# Altium integrated library Altium_SMD_Resister.IntLib: 493 symbols (part 6 of 8)
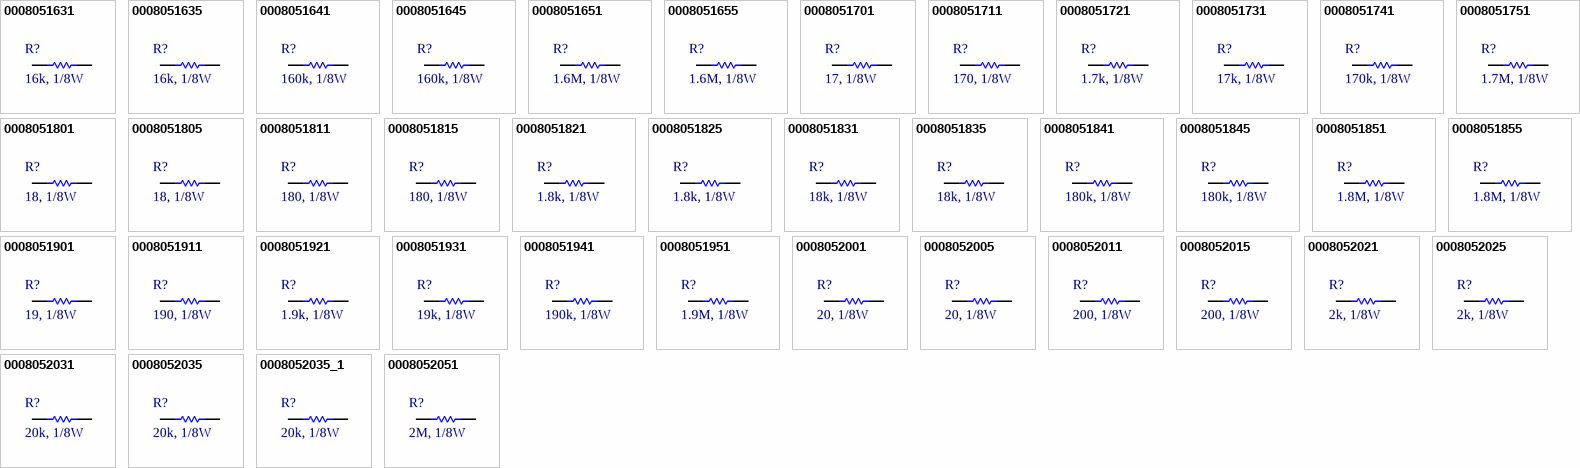
[diagram p17: symbols 0008051631 to 0008052051]

## 0008052021
designator R?, comment 2k, 1/8W
RES, 2k Ohm, size 0805, 1%; Manufacture  Name: Vishay Dale; Manufacture  SN: CRCW08052K00FKEBC; Resistance tolerance: +/-1%; Supply 1 Name: Mouser; Supply 1 SN: 71-CRCW08052K00FKEBC; Supply 2 Name: Digi-Key; Supply 2 SN: 541-CRCW08052K00FKEBCTR-ND; Supply 3 Name: Thegioiic; Size: 0805; Mounting Technology: SMT; Rated Power: 1/8 W; Datasheet: https://www.vishay.com/docs/28773/crcwce3.pdf; Resistance: 2k; Supply 1 URL: https://www.mouser.vn/ProductDetail/Vishay-Dale/CRCW08052K00FKEBC?qs=wd5RIQLrsJimvZ2z7rs9jQ%3D%3D; Supply 2 URL: https://www.digikey.com/en/products/detail/vishay-dale/CRCW08052K00FKEBC/7923203; Supply 3 SN: N/A; Supply 3 URL: N/A
footprint RESISTOR_0805 (Chip Resistor, 2-Leads, Body 2,00x1,20mm, IPC Medium Density)
pins: 1, 2

## 0008052025
designator R?, comment 2k, 1/8W
RES, 2k Ohm, size 0805, 5%; Manufacture  Name: Vishay Dale; Manufacture  SN: CRCW08052K00JNEA; Resistance tolerance: +/-5%; Supply 1 Name: Mouser; Supply 1 SN: 71-CRCW08052K00JNEA; Supply 2 Name: Digi-Key; Supply 2 SN: 541-2.0KATR-ND; Supply 3 Name: Thegioiic; Size: 0805; Mounting Technology: SMT; Rated Power: 1/8 W; Datasheet: https://www.vishay.com/docs/20035/dcrcwe3.pdf; Resistance: 2k; Supply 1 URL: https://www.mouser.vn/ProductDetail/Vishay-Dale/CRCW08052K00JNEA?qs=SM0pg8AlB3peKJz4hE%252BhDA%3D%3D; Supply 2 URL: https://www.digikey.com/en/products/detail/vishay-dale/CRCW08052K00JNEA/1175205; Supply 3 SN: N/A; Supply 3 URL: https://www.thegioiic.com/dien-tro-2-kohm-0805-5
footprint RESISTOR_0805 (Chip Resistor, 2-Leads, Body 2,00x1,20mm, IPC Medium Density)
pins: 1, 2

## 0008052031
designator R?, comment 20k, 1/8W
RES, 20k Ohm, size 0805, 1%; Manufacture  Name: Vishay Dale; Manufacture  SN: CRCW080520K0FKEAC; Resistance tolerance: +/-1%; Supply 1 Name: Mouser; Supply 1 SN: 71-CRCW0805-20K; Supply 2 Name: Digi-Key; Supply 2 SN: 541-4133-2-ND; Supply 3 Name: Thegioiic; Size: 0805; Mounting Technology: SMT; Rated Power: 1/8 W; Datasheet: https://www.vishay.com/docs/28773/crcwce3.pdf; Resistance: 20k; Supply 1 URL: https://www.mouser.vn/ProductDetail/Vishay-Dale/CRCW080520K0FKTA?qs=18bRiP0yrODnUEny%2FmPwqA%3D%3D; Supply 2 URL: https://www.digikey.com/en/products/detail/vishay-dale/CRCW080520K0FKEAC/7928555; Supply 3 SN: N/A; Supply 3 URL: https://www.thegioiic.com/dien-tro-20-kohm-0805-1
footprint RESISTOR_0805 (Chip Resistor, 2-Leads, Body 2,00x1,20mm, IPC Medium Density)
pins: 1, 2

## 0008052035
designator R?, comment 20k, 1/8W
RES, 20k Ohm, size 0805, 5%; Manufacture  Name: Panasonic; Manufacture  SN: ERJ-U06J203V; Resistance tolerance: +/-5%; Supply 1 Name: Mouser; Supply 1 SN: 667-ERJ-U06J203V; Supply 2 Name: Digi-Key; Supply 2 SN: P20KATR-ND - Tape & Reel (TR); Supply 3 Name: Thegioiic; Size: 0805; Mounting Technology: SMT; Rated Power: 1/8 W; Datasheet: https://www.mouser.vn/datasheet/2/315/AOA0000C334-1314047.pdf; Resistance: 20k; Supply 1 URL: https://www.mouser.vn/ProductDetail/Panasonic/ERJ-U06J203V?qs=Yyy8avaXlIv0b2cRsnbjDw%3D%3D; Supply 2 URL: https://www.digikey.com/en/products/detail/panasonic-electronic-components/ERJ-6GEYJ203V/83076; Supply 3 SN: N/A; Supply 3 URL: https://www.thegioiic.com/dien-tro-20-kohm-0805-5-
footprint RESISTOR_0805 (Chip Resistor, 2-Leads, Body 2,00x1,20mm, IPC Medium Density)
pins: 1, 2

## 0008052035_1
designator R?, comment 20k, 1/8W
RES, 20k Ohm, size 0805, 5%; Manufacture  Name: Vishay Dale; Manufacture  SN: CRCW080520K0JNEA; Resistance tolerance: +/-5%; Supply 1 Name: Mouser; Supply 1 SN: 71-CRCW0805J-20K-E3; Supply 2 Name: Digi-Key; Supply 2 SN: 541-20KATR-ND; Supply 3 Name: Thegioiic; Size: 0805; Mounting Technology: SMT; Rated Power: 1/8 W; Datasheet: https://www.vishay.com/docs/20035/dcrcwe3.pdf; Resistance: 20k; Supply 1 URL: https://www.mouser.vn/ProductDetail/Vishay-Dale/CRCW080520K0JNEA?qs=t6Mf8e9K%2FunNZ57Hz5Mz5w%3D%3D; Supply 2 URL: https://www.digikey.com/en/products/detail/vishay-dale/CRCW080520K0JNEA/1175229; Supply 3 SN: N/A; Supply 3 URL: https://www.thegioiic.com/dien-tro-20-kohm-0805-5-
footprint RESISTOR_0805 (Chip Resistor, 2-Leads, Body 2,00x1,20mm, IPC Medium Density)
pins: 1, 2

## 0008052051
designator R?, comment 2M, 1/8W
RES, 2M Ohm, size 0805, 1%; Manufacture  Name: Panasonic; Manufacture  SN: ERJ-6ENF2004V; Resistance tolerance: +/-1%; Supply 1 Name: Mouser; Supply 1 SN: 667-ERJ-6ENF2004V; Supply 2 Name: Digi-Key; Supply 3 Name: Thegioiic; Size: 0805; Mounting Technology: SMT; Rated Power: 1/8 W; Datasheet: https://www.mouser.vn/datasheet/2/315/AOA0000C304-1149620.pdf; Resistance: 2M; Supply 1 URL: https://www.mouser.vn/ProductDetail/Panasonic/ERJ-6ENF2004V?qs=50QC8w71jAsSP8AJKmX4kA%3D%3D; Supply 2 SN: N/A; Supply 2 URL: N/A; Supply 3 SN: N/A; Supply 3 URL: N/A
footprint RESISTOR_0805 (Chip Resistor, 2-Leads, Body 2,00x1,20mm, IPC Medium Density)
pins: 1, 2

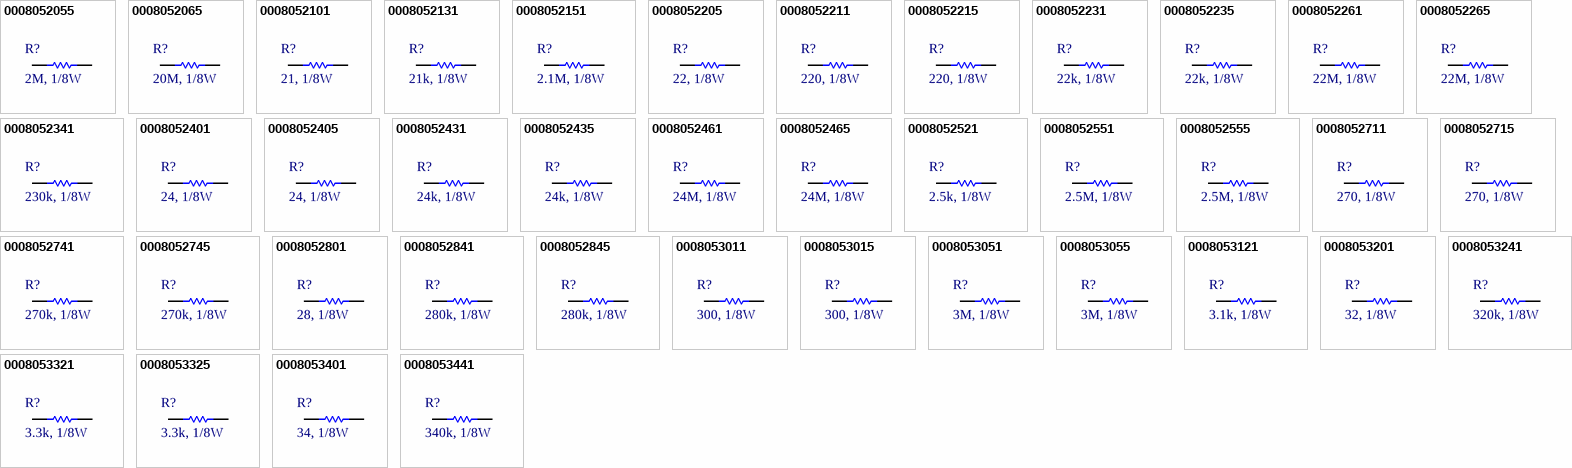
[diagram p9: symbols 0008052055 to 0008053441]

## 0008052055
designator R?, comment 2M, 1/8W
RES, 2M Ohm, size 0805, 5%; Manufacture  Name: Panasonic; Manufacture  SN: ERJ-6GEYJ205V; Resistance tolerance: +/-5%; Supply 1 Name: Mouser; Supply 1 SN: 667-ERJ-6GEYJ205V; Supply 2 Name: Digi-Key; Supply 2 SN: 10-ERJ-U06J205VTR-ND - Tape & Reel (TR); Supply 3 Name: Thegioiic; Size: 0805; Mounting Technology: SMT; Rated Power: 1/8 W; Datasheet: https://www.mouser.vn/datasheet/2/315/AOA0000C301-1488782.pdf; Resistance: 2M; Supply 1 URL: https://www.mouser.vn/ProductDetail/Panasonic/ERJ-6GEYJ205V?qs=8%252BG0TiN%2FgVosrBfWIhyhKw%3D%3D; Supply 2 URL: https://www.digikey.com/en/products/detail/panasonic-electronic-components/ERJ-U06J205V/11631387; Supply 3 SN: N/A; Supply 3 URL: N/A
footprint RESISTOR_0805 (Chip Resistor, 2-Leads, Body 2,00x1,20mm, IPC Medium Density)
pins: 1, 2

## 0008052065
designator R?, comment 20M, 1/8W
RES, 20M Ohm, size 0805, 5%; Manufacture  Name: YAGEO; Manufacture  SN: RC0805JR-0720ML; Resistance tolerance: +/-5%; Supply 1 Name: Mouser; Supply 1 SN: 13-RC0805JR-0720MLTR-ND - Tape & Reel (TR); Supply 2 Name: Digi-Key; Supply 2 SN: P2.1BTTR-ND - Tape & Reel (TR); Supply 3 Name: Thegioiic; Size: 0805; Mounting Technology: SMT; Rated Power: 1/8 W; Datasheet: https://www.mouser.vn/datasheet/2/447/PYu_RC_Group_51_RoHS_L_11-1984063.pdf; Resistance: 20M; Supply 1 URL: https://www.mouser.vn/ProductDetail/YAGEO/RC0805JR-0720ML?qs=FsveJYYILCKsJCsPRaOT6g%3D%3D; Supply 2 URL: https://www.digikey.com/en/products/detail/yageo/RC0805JR-0720ML/5919059; Supply 3 SN: N/A; Supply 3 URL: N/A
footprint RESISTOR_0805 (Chip Resistor, 2-Leads, Body 2,00x1,20mm, IPC Medium Density)
pins: 1, 2

## 0008052101
designator R?, comment 21, 1/8W
RES, 21 Ohm, size 0805, 1%; Manufacture  Name: Vishay / Dale; Manufacture  SN: CRCW080521R0FKEA; Resistance tolerance: +/-1%; Resistance: 21; Supply 1 Name: Mouser; Supply 1 SN: 71-CRCW080521R0FKEA; Supply 2 Name: Digi-Key; Supply 3 Name: Thegioiic; Size: 0805; Mounting Technology: SMT; Rated Power: 1/8 W; Datasheet: https://www.vishay.com/doc?20035; Supply 1 URL: https://www.mouser.vn/ProductDetail/Vishay-Dale/CRCW080521R0FKEA?qs=t6Mf8e9K%2Fuko8IyNc8Xfag%3D%3D; Supply 2 SN: N/A; Supply 2 URL: N/A; Supply 3 SN: N/A; Supply 3 URL: N/A
footprint RESISTOR_0805 (Chip Resistor, 2-Leads, Body 2,00x1,20mm, IPC Medium Density)
pins: 1, 2

## 0008052131
designator R?, comment 21k, 1/8W
RES, 21k Ohm, size 0805, 1%; Manufacture  Name: Bourns; Manufacture  SN: CR0805-FX-2102ELF; Resistance tolerance: +/-1%; Supply 1 Name: Mouser; Supply 1 SN: 652-CR0805FX-2102ELF; Supply 2 Name: Digi-Key; Supply 2 SN: 311-21.0KCRTR-ND - Tape & Reel (TR); Supply 3 Name: Thegioiic; Size: 0805; Mounting Technology: SMT; Rated Power: 1/8 W; Datasheet: https://www.mouser.vn/datasheet/2/54/cr-1858361.pdf; Resistance: 21k; Supply 1 URL: https://www.mouser.vn/ProductDetail/Bourns/CR0805-FX-2102ELF?qs=Woncl1%2FcWdgAGNTXVWqgGA%3D%3D; Supply 2 URL: https://www.digikey.com/en/products/detail/yageo/RC0805FR-0721KL/727728; Supply 3 SN: N/A; Supply 3 URL: N/A
footprint RESISTOR_0805 (Chip Resistor, 2-Leads, Body 2,00x1,20mm, IPC Medium Density)
pins: 1, 2

## 0008052151
designator R?, comment 2.1M, 1/8W
RES, 2.1M Ohm, size 0805, 1%; Manufacture  Name: Vishay / Dale; Manufacture  SN: CRCW08052M10FKEA; Resistance tolerance: +/-1%; Supply 1 Name: Mouser; Supply 1 SN: 71-CRCW08052M10FKEA; Supply 2 Name: Digi-Key; Supply 2 SN: P2.1BTTR-ND - Tape & Reel (TR); Supply 3 Name: Thegioiic; Size: 0805; Mounting Technology: SMT; Rated Power: 1/8 W; Datasheet: https://www.vishay.com/doc?20035; Resistance: 2.1M; Supply 1 URL: https://www.mouser.vn/ProductDetail/Vishay-Dale/CRCW08052M10FKEA?qs=AxGrLaB7GFLQOtpwLfDPFg%3D%3D; Supply 2 URL: https://www.digikey.com/en/products/detail/panasonic-electronic-components/ERJ-6ENF2104V/4429124; Supply 3 SN: N/A; Supply 3 URL: N/A
footprint RESISTOR_0805 (Chip Resistor, 2-Leads, Body 2,00x1,20mm, IPC Medium Density)
pins: 1, 2

## 0008052205
designator R?, comment 22, 1/8W
RES, 22 Ohm, size 0805, 5%; Manufacture  Name: Bourns; Manufacture  SN: CR0805-JW-200ELF; Resistance tolerance: +/-5%; Resistance: 22; Supply 1 Name: Mouser; Supply 1 SN: 652-CR0805JW-200ELF; Supply 2 Name: Digi-Key; Supply 2 SN: CHP0805-JW-200ELFTR-ND - Tape & Reel (TR); Supply 3 Name: Thegioiic; Size: 0805; Mounting Technology: SMT; Rated Power: 1/8 W; Datasheet: https://www.mouser.vn/datasheet/2/54/cr-1858361.pdf; Supply 1 URL: https://www.mouser.vn/ProductDetail/Bourns/CR0805-JW-200ELF?qs=wL7NMIHXUPkPRFW4oSYkFg%3D%3D; Supply 2 URL: https://www.digikey.com/en/products/detail/bourns-inc/CHP0805-JW-200ELF/9598606; Supply 3 SN: N/A; Supply 3 URL: https://www.thegioiic.com/dien-tro-20-ohm-0805-5-
footprint RESISTOR_0805 (Chip Resistor, 2-Leads, Body 2,00x1,20mm, IPC Medium Density)
pins: 1, 2

## 0008052211
designator R?, comment 220, 1/8W
RES, 220 Ohm, size 0805, 1%; Manufacture  Name: ROHM Semiconductor; Manufacture  SN: SFR10EZPF2200; Resistance tolerance: +/-1%; Resistance: 220; Supply 1 Name: Mouser; Supply 1 SN: 755-SFR10EZPF2200; Supply 2 Name: Digi-Key; Supply 2 SN: 13-RC0805FR-13220RLTR-ND - Tape & Reel (TR); Supply 3 Name: Thegioiic; Size: 0805; Mounting Technology: SMT; Rated Power: 1/8 W; Datasheet: https://www.mouser.vn/datasheet/2/348/sfr_e-3009639.pdf; Supply 1 URL: https://www.mouser.vn/ProductDetail/ROHM-Semiconductor/SFR10EZPF2200?qs=Y0Uzf4wQF3kqA8mD%252BXm5fA%3D%3D; Supply 2 URL: https://www.digikey.com/en/products/detail/yageo/RC0805FR-13220RL/14008293; Supply 3 SN: N/A; Supply 3 URL: https://www.thegioiic.com/dien-tro-220-ohm-0805-1-
footprint RESISTOR_0805 (Chip Resistor, 2-Leads, Body 2,00x1,20mm, IPC Medium Density)
pins: 1, 2

## 0008052215
designator R?, comment 220, 1/8W
RES, 220 Ohm, size 0805, 5%; Manufacture  Name: Panasonic; Manufacture  SN: ERJ-U06J221V; Resistance tolerance: +/-5%; Resistance: 220; Supply 1 Name: Mouser; Supply 1 SN: 667-ERJ-U06J221V; Supply 2 Name: Digi-Key; Supply 2 SN: P220ATR-ND - Tape & Reel (TR); Supply 3 Name: Thegioiic; Size: 0805; Mounting Technology: SMT; Rated Power: 1/8 W; Datasheet: https://www.mouser.vn/datasheet/2/348/sfr_e-3009639.pdf; Supply 1 URL: https://www.mouser.vn/ProductDetail/ROHM-Semiconductor/SFR10EZPF2200?qs=Y0Uzf4wQF3kqA8mD%252BXm5fA%3D%3D; Supply 2 URL: https://www.digikey.com/en/products/detail/panasonic-electronic-components/ERJ-6GEYJ221V/89706; Supply 3 SN: N/A; Supply 3 URL: https://www.thegioiic.com/dien-tro-220-ohm-0805-5
footprint RESISTOR_0805 (Chip Resistor, 2-Leads, Body 2,00x1,20mm, IPC Medium Density)
pins: 1, 2

## 0008052231
designator R?, comment 22k, 1/8W
RES, 22k Ohm, size 0805, 1%; Manufacture  Name: Vishay / Dale; Manufacture  SN: CRCW080522K0FKEA; Resistance tolerance: +/-1%; Supply 1 Name: Mouser; Supply 1 SN: 71-CRCW0805-22K-E3; Supply 2 Name: Digi-Key; Supply 2 SN: 13-RC0805FR-1322KLTR-ND - Tape & Reel (TR); Supply 3 Name: Thegioiic; Size: 0805; Mounting Technology: SMT; Rated Power: 1/8 W; Datasheet: https://www.vishay.com/doc?20035; Resistance: 22k; Supply 1 URL: https://www.mouser.vn/ProductDetail/Vishay-Dale/CRCW080522K0FKEA?qs=fIsz7OpyEY835T0D7WGkRw%3D%3D; Supply 2 URL: https://www.digikey.com/en/products/detail/yageo/RC0805FR-1322KL/14008208; Supply 3 SN: N/A; Supply 3 URL: https://www.thegioiic.com/dien-tro-22-kohm-0805-1
footprint RESISTOR_0805 (Chip Resistor, 2-Leads, Body 2,00x1,20mm, IPC Medium Density)
pins: 1, 2

## 0008052235
designator R?, comment 22k, 1/8W
RES, 22k Ohm, size 0805, 5%; Manufacture  Name: Vishay / Dale; Manufacture  SN: CRCW080522K0FKEA; Resistance tolerance: +/-5%; Supply 1 Name: Mouser; Supply 1 SN: 71-CRCW0805-22K-E3; Supply 2 Name: Digi-Key; Supply 2 SN: 13-RC0805FR-1322KLTR-ND - Tape & Reel (TR); Supply 3 Name: Thegioiic; Size: 0805; Mounting Technology: SMT; Rated Power: 1/8 W; Datasheet: https://www.vishay.com/doc?20035; Resistance: 22k; Supply 1 URL: https://www.mouser.vn/ProductDetail/Vishay-Dale/CRCW080522K0FKEA?qs=fIsz7OpyEY835T0D7WGkRw%3D%3D; Supply 2 URL: https://www.digikey.com/en/products/detail/yageo/RC0805FR-1322KL/14008208; Supply 3 SN: N/A; Supply 3 URL: https://www.thegioiic.com/dien-tro-22-kohm-0805-1
footprint RESISTOR_0805 (Chip Resistor, 2-Leads, Body 2,00x1,20mm, IPC Medium Density)
pins: 1, 2

## 0008052261
designator R?, comment 22M, 1/8W
RES, 22M Ohm, size 0805, 1%; Manufacture  Name: SEI Stackpole; Manufacture  SN: RMCF0805FT22M0; Resistance tolerance: +/-1%; Supply 1 Name: Mouser; Supply 1 SN: 708-RMCF0805FT22M0; Supply 2 Name: Digi-Key; Supply 2 SN: RMCF0805FT22M0TR-ND - Tape & Reel (TR); Supply 3 Name: Thegioiic; Size: 0805; Mounting Technology: SMT; Rated Power: 1/8 W; Datasheet: https://www.mouser.vn/datasheet/2/385/SEI_RMCF_RMCP-3077565.pdf; Resistance: 22M; Supply 1 URL: https://www.mouser.vn/ProductDetail/SEI-Stackpole/RMCF0805FT22M0?qs=MyNHzdoqoQLIOin2poKxZA%3D%3D; Supply 2 URL: https://www.digikey.com/en/products/detail/stackpole-electronics-inc/RMCF0805FT22M0/6053747; Supply 3 SN: N/A; Supply 3 URL: N/A
footprint RESISTOR_0805 (Chip Resistor, 2-Leads, Body 2,00x1,20mm, IPC Medium Density)
pins: 1, 2

## 0008052265
designator R?, comment 22M, 1/8W
RES, 22M Ohm, size 0805, 5%; Manufacture  Name: SEI Stackpole; Manufacture  SN: RMCF0805FT22M0; Resistance tolerance: +/-5%; Supply 1 Name: Mouser; Supply 1 SN: 71-CRCW0805226JT; Supply 2 Name: Digi-Key; Supply 2 SN: 541-CRCW080522M0JPEAHRTR-ND - Tape & Reel (TR); Supply 3 Name: Thegioiic; Size: 0805; Mounting Technology: SMT; Rated Power: 1/8 W; Datasheet: https://www.vishay.com/doc?20022; Resistance: 22M; Supply 1 URL: https://www.mouser.vn/ProductDetail/Vishay-Dale/CRCW080522M0JPEAHR?qs=fIsz7OpyEY%2FBgljFbesWMw%3D%3D; Supply 2 URL: https://www.digikey.com/en/products/detail/vishay-dale/CRCW080522M0JPEAHR/5074441; Supply 3 SN: N/A; Supply 3 URL: N/A
footprint RESISTOR_0805 (Chip Resistor, 2-Leads, Body 2,00x1,20mm, IPC Medium Density)
pins: 1, 2

## 0008052341
designator R?, comment 230k, 1/8W
RES, 230k Ohm, size 0805, 1%; Manufacture  Name: Royalohm; Manufacture  SN: 0805W8F2303T5E; Resistance tolerance: +/-1%; Supply 1 Name: Mouser; Supply 1 SN: 303-0805W8F2303T5E; Supply 2 Name: Digi-Key; Supply 3 Name: Thegioiic; Size: 0805; Mounting Technology: SMT; Rated Power: 1/8 W; Datasheet: https://www.mouser.vn/datasheet/2/1365/1-3044649.pdf; Resistance: 230k; Supply 1 URL: https://www.mouser.vn/ProductDetail/Royalohm/0805W8F2303T5E?qs=e8oIoAS2J1TfhjSl20ty9Q%3D%3D; Supply 2 SN: N/A; Supply 2 URL: N/A; Supply 3 SN: N/A; Supply 3 URL: N/A
footprint RESISTOR_0805 (Chip Resistor, 2-Leads, Body 2,00x1,20mm, IPC Medium Density)
pins: 1, 2

## 0008052401
designator R?, comment 24, 1/8W
RES, 24 Ohm, size 0805, 1%; Manufacture  Name: Bourns; Manufacture  SN: CR0805-FX-24R0ELF; Resistance tolerance: +/-1%; Resistance: 24; Supply 1 Name: Mouser; Supply 1 SN: 652-CR0805FX-24R0ELF; Supply 2 Name: Digi-Key; Supply 2 SN: 311-24.0CRTR-ND - Tape & Reel (TR); Supply 3 Name: Thegioiic; Size: 0805; Mounting Technology: SMT; Rated Power: 1/8 W; Datasheet: https://www.mouser.vn/datasheet/2/54/cr-1858361.pdf; Supply 1 URL: https://www.mouser.vn/ProductDetail/Bourns/CR0805-FX-24R0ELF?qs=4vGXhLEMbUyS5LbGuwLBiw%3D%3D; Supply 2 URL: https://www.digikey.com/en/products/detail/yageo/RC0805FR-0724RL/727755; Supply 3 SN: N/A; Supply 3 URL: N/A
footprint RESISTOR_0805 (Chip Resistor, 2-Leads, Body 2,00x1,20mm, IPC Medium Density)
pins: 1, 2

## 0008052405
designator R?, comment 24, 1/8W
RES, 24 Ohm, size 0805, 5%; Manufacture  Name: YAGEO; Manufacture  SN: AR0805JR-0724RL; Resistance tolerance: +/-5%; Resistance: 24; Supply 1 Name: Mouser; Supply 1 SN: 603-AR0805JR-0724RL; Supply 2 Name: Digi-Key; Supply 2 SN: 311-24ARTR-ND - Tape & Reel (TR); Supply 3 Name: Thegioiic; Size: 0805; Mounting Technology: SMT; Rated Power: 1/8 W; Datasheet: https://www.mouser.vn/datasheet/2/447/PYu_AR_51_RoHS_L_7-3003081.pdf; Supply 1 URL: https://www.mouser.vn/ProductDetail/YAGEO/AR0805JR-0724RL?qs=tub3WQyKOl9Td0xHEAWkDQ%3D%3D; Supply 2 URL: https://www.digikey.com/en/products/detail/yageo/RC0805JR-0724RL/728289; Supply 3 SN: N/A; Supply 3 URL: https://www.thegioiic.com/dien-tro-24-ohm-0805-5-
footprint RESISTOR_0805 (Chip Resistor, 2-Leads, Body 2,00x1,20mm, IPC Medium Density)
pins: 1, 2

## 0008052431
designator R?, comment 24k, 1/8W
RES, 24k Ohm, size 0805, 1%; Manufacture  Name: TE Connectivity / Holsworthy; Manufacture  SN: CRG0805F24K; Resistance tolerance: +/-1%; Supply 1 Name: Mouser; Supply 1 SN: 279-CRG0805F24K; Supply 2 Name: Digi-Key; Supply 2 SN: 311-24.0KCRTR-ND - Tape & Reel (TR); Supply 3 Name: Thegioiic; Size: 0805; Mounting Technology: SMT; Rated Power: 1/8 W; Datasheet: https://www.mouser.vn/datasheet/2/418/NG_CD_1623163_BA-655702.pdf; Resistance: 24k; Supply 1 URL: https://www.mouser.vn/ProductDetail/TE-Connectivity-Holsworthy/CRG0805F24K?qs=5Dj%252BCDyFp7jSU1utfpqO1w%3D%3D; Supply 2 URL: https://www.digikey.com/en/products/detail/yageo/RC0805FR-0724KL/727756; Supply 3 SN: N/A; Supply 3 URL: N/A
footprint RESISTOR_0805 (Chip Resistor, 2-Leads, Body 2,00x1,20mm, IPC Medium Density)
pins: 1, 2

## 0008052435
designator R?, comment 24k, 1/8W
RES, 24k Ohm, size 0805, 5%; Manufacture  Name: Bourns; Manufacture  SN: CR0805-JW-243ELF; Resistance tolerance: +/-5%; Supply 1 Name: Mouser; Supply 1 SN: 652-CR0805JW-243ELF; Supply 2 Name: Digi-Key; Supply 2 SN: 118-CR0805-JW-243ELFTR-ND - Tape & Reel (TR); Supply 3 Name: Thegioiic; Size: 0805; Mounting Technology: SMT; Rated Power: 1/8 W; Datasheet: https://www.mouser.vn/datasheet/2/418/NG_CD_1623163_BA-655702.pdf; Resistance: 24k; Supply 1 URL: https://www.mouser.vn/ProductDetail/Bourns/CR0805-JW-243ELF?qs=%252BcBkmVQIZ2SWVtow93mBjQ%3D%3D; Supply 2 URL: https://www.digikey.com/en/products/detail/bourns-inc/CR0805-JW-243ELF/3785280; Supply 3 SN: N/A; Supply 3 URL: https://www.thegioiic.com/dien-tro-24-kohm-0805-5
footprint RESISTOR_0805 (Chip Resistor, 2-Leads, Body 2,00x1,20mm, IPC Medium Density)
pins: 1, 2

## 0008052461
designator R?, comment 24M, 1/8W
RES, 24M Ohm, size 0805, 1%; Manufacture  Name: KOA Speer Electronics, Inc.; Manufacture  SN: HV732HTTE2405F; Resistance tolerance: +/-1%; Supply 1 Name: Mouser; Supply 2 Name: Digi-Key; Supply 2 SN: 2019-HV732HTTE2405FTR-ND - Tape & Reel (TR); Supply 3 Name: Thegioiic; Size: 0805; Mounting Technology: SMT; Rated Power: 1/8 W; Datasheet: https://www.koaspeer.com/pdfs/HV73.pdf; Resistance: 24M; Supply 1 SN: N/A; Supply 1 URL: N/A; Supply 2 URL: https://www.digikey.com/en/products/detail/koa-speer-electronics-inc/HV732HTTE2405F/10132853?s=N4IgjCBcoMxaBjKAzAhgGwM4FMA0IB7KAbXDBggF18AHAFyhAGU6AnASwDsBzEAX3wAmAAwAOAKzwQSSGix5CJEIIAsAAgCyAeQAWAW0whqIeowCqndnS3IN2VJgCurbPz58gA; Supply 3 SN: N/A; Supply 3 URL: N/A
footprint RESISTOR_0805 (Chip Resistor, 2-Leads, Body 2,00x1,20mm, IPC Medium Density)
pins: 1, 2

## 0008052465
designator R?, comment 24M, 1/8W
RES, 24M Ohm, size 0805, 5%; Manufacture  Name: KOA Speer Electronics, Inc.; Manufacture  SN: HV732ATTD246J; Resistance tolerance: +/-5%; Supply 1 Name: Mouser; Supply 2 Name: Digi-Key; Supply 2 SN: 660-HV732ATTD246J; Supply 3 Name: Thegioiic; Size: 0805; Mounting Technology: SMT; Rated Power: 1/8 W; Datasheet: https://www.mouser.vn/datasheet/2/219/HV73-11287.pdf; Resistance: 24M; Supply 1 SN: N/A; Supply 1 URL: N/A; Supply 2 URL: https://www.mouser.vn/ProductDetail/KOA-Speer/HV732ATTD246J?qs=UGeEjMFwUpRa%252BFVrwwDXrw%3D%3D; Supply 3 SN: N/A; Supply 3 URL: N/A
footprint RESISTOR_0805 (Chip Resistor, 2-Leads, Body 2,00x1,20mm, IPC Medium Density)
pins: 1, 2

## 0008052521
designator R?, comment 2.5k, 1/8W
RES, 2.5k Ohm, size 0805, 1%; Manufacture  Name: Royalohm; Manufacture  SN: 0805W8F2501T5E; Resistance tolerance: +/-1%; Supply 1 Name: Mouser; Supply 1 SN: 303-0805W8F2501T5E; Supply 2 Name: Digi-Key; Supply 2 SN: 2997-CR102501FTR-ND - Tape & Reel (TR); Supply 3 Name: Thegioiic; Size: 0805; Mounting Technology: SMT; Rated Power: 1/8 W; Datasheet: https://www.mouser.vn/datasheet/2/1365/1-3044649.pdf; Resistance: 2.5k; Supply 1 URL: https://www.mouser.vn/ProductDetail/Royalohm/0805W8F2501T5E?qs=e8oIoAS2J1Qc4Ic0dQUBsw%3D%3D; Supply 2 URL: https://www.digikey.com/en/products/detail/meritek/CR102501F/13414399; Supply 3 SN: N/A; Supply 3 URL: N/A
footprint RESISTOR_0805 (Chip Resistor, 2-Leads, Body 2,00x1,20mm, IPC Medium Density)
pins: 1, 2

## 0008052551
designator R?, comment 2.5M, 1/8W
RES, 2.5M Ohm, size 0805, 1%; Manufacture  Name: Royalohm; Manufacture  SN: 0805W8F2504T5E; Resistance tolerance: +/-1%; Supply 1 Name: Mouser; Supply 1 SN: 303-0805W8F2504T5E; Supply 2 Name: Digi-Key; Supply 3 Name: Thegioiic; Size: 0805; Mounting Technology: SMT; Rated Power: 1/8 W; Datasheet: https://www.mouser.vn/datasheet/2/1365/1-3044649.pdf; Resistance: 2.5M; Supply 1 URL: https://www.mouser.vn/ProductDetail/Royalohm/0805W8F2504T5E?qs=e8oIoAS2J1Q2l7BgYnDvGQ%3D%3D; Supply 2 SN: N/A; Supply 2 URL: N/A; Supply 3 SN: N/A; Supply 3 URL: N/A
footprint RESISTOR_0805 (Chip Resistor, 2-Leads, Body 2,00x1,20mm, IPC Medium Density)
pins: 1, 2

## 0008052555
designator R?, comment 2.5M, 1/8W
RES, 2.5M Ohm, size 0805, 5%; Manufacture  Name: Ohmite; Manufacture  SN: HVC0805T2504JET; Resistance tolerance: +/-5%; Supply 1 Name: Mouser; Supply 1 SN: 588-HVC0805T2504JET; Supply 2 Name: Digi-Key; Supply 2 SN: HVC0805T2504JETTR-ND - Tape & Reel (TR); Supply 3 Name: Thegioiic; Size: 0805; Mounting Technology: SMT; Rated Power: 1/8 W; Datasheet: https://www.mouser.vn/datasheet/2/303/res_hvc-3082600.pdf; Resistance: 2.5M; Supply 1 URL: https://www.mouser.vn/ProductDetail/Ohmite/HVC0805T2504JET?qs=wolJx%252BcPnTpZSJA41zZzFA%3D%3D; Supply 2 URL: https://www.digikey.com/en/products/detail/ohmite/HVC0805T2504JET/4759727; Supply 3 SN: N/A; Supply 3 URL: N/A
footprint RESISTOR_0805 (Chip Resistor, 2-Leads, Body 2,00x1,20mm, IPC Medium Density)
pins: 1, 2

## 0008052711
designator R?, comment 270, 1/8W
RES, 270 Ohm, size 0805, 1%; Manufacture  Name: Bourns; Manufacture  SN: CR0805-FX-2700ELF; Resistance tolerance: +/-1%; Resistance: 270; Supply 1 Name: Mouser; Supply 1 SN: 652-CR0805FX-2700ELF; Supply 2 Name: Digi-Key; Supply 2 SN: 311-270CRTR-ND - Tape & Reel (TR); Supply 3 Name: Thegioiic; Size: 0805; Mounting Technology: SMT; Rated Power: 1/8 W; Datasheet: https://www.mouser.vn/datasheet/2/54/cr-1858361.pdf; Supply 1 URL: https://www.mouser.vn/ProductDetail/Bourns/CR0805-FX-2700ELF?qs=4vGXhLEMbUwfoxAMFQ260A%3D%3D; Supply 2 URL: https://www.digikey.com/en/products/detail/yageo/RC0805FR-07270RL/727783; Supply 3 SN: N/A; Supply 3 URL: N/A
footprint RESISTOR_0805 (Chip Resistor, 2-Leads, Body 2,00x1,20mm, IPC Medium Density)
pins: 1, 2

## 0008052715
designator R?, comment 270, 1/8W
RES, 270 Ohm, size 0805, 5%; Manufacture  Name: Bourns; Manufacture  SN: CR0805-JW-271ELF; Resistance tolerance: +/-5%; Resistance: 270; Supply 1 Name: Mouser; Supply 1 SN: 652-CR0805JW-271ELF; Supply 2 Name: Digi-Key; Supply 2 SN: 118-CR0805-JW-271ELFTR-ND - Tape & Reel (TR); Supply 3 Name: Thegioiic; Size: 0805; Mounting Technology: SMT; Rated Power: 1/8 W; Datasheet: https://www.mouser.vn/datasheet/2/54/cr-1858361.pdf; Supply 1 URL: https://www.mouser.vn/ProductDetail/Bourns/CR0805-JW-271ELF?qs=%252BcBkmVQIZ2R7GER%2FjClJmw%3D%3D; Supply 2 URL: https://www.digikey.com/en/products/detail/bourns-inc/CR0805-JW-271ELF/3785284; Supply 3 SN: N/A; Supply 3 URL: https://www.thegioiic.com/dien-tro-270-ohm-0805-5
footprint RESISTOR_0805 (Chip Resistor, 2-Leads, Body 2,00x1,20mm, IPC Medium Density)
pins: 1, 2

## 0008052741
designator R?, comment 270k, 1/8W
RES, 270k Ohm, size 0805, 1%; Manufacture  Name: Panasonic; Manufacture  SN: ERJ-6ENF2703V; Resistance tolerance: +/-1%; Supply 1 Name: Mouser; Supply 1 SN: 667-ERJ-6ENF2703V; Supply 2 Name: Digi-Key; Supply 2 SN: 311-270KCRTR-ND - Tape & Reel (TR); Supply 3 Name: Thegioiic; Size: 0805; Mounting Technology: SMT; Rated Power: 1/8 W; Datasheet: https://www.mouser.vn/datasheet/2/315/AOA0000C304-1149620.pdf; Resistance: 270k; Supply 1 URL: https://www.mouser.vn/ProductDetail/Panasonic/ERJ-6ENF2703V?qs=50QC8w71jAsIUsFp0TwUKw%3D%3D; Supply 2 URL: https://www.digikey.com/en/products/detail/yageo/RC0805FR-07270KL/727784; Supply 3 SN: N/A; Supply 3 URL: N/A
footprint RESISTOR_0805 (Chip Resistor, 2-Leads, Body 2,00x1,20mm, IPC Medium Density)
pins: 1, 2

## 0008052745
designator R?, comment 270k, 1/8W
RES, 270k Ohm, size 0805, 5%; Manufacture  Name: Panasonic; Manufacture  SN: ERJ-6GEYJ274V; Resistance tolerance: +/-5%; Supply 1 Name: Mouser; Supply 1 SN: 667-ERJ-6GEYJ274V; Supply 2 Name: Digi-Key; Supply 2 SN: P270KATR-ND - Tape & Reel (TR); Supply 3 Name: Thegioiic; Size: 0805; Mounting Technology: SMT; Rated Power: 1/8 W; Datasheet: https://www.mouser.vn/datasheet/2/315/AOA0000C301-1488782.pdf; Resistance: 270k; Supply 1 URL: https://www.mouser.vn/ProductDetail/Panasonic/ERJ-6GEYJ274V?qs=8%252BG0TiN%2FgVoTZyZKP1v2zQ%3D%3D; Supply 2 URL: https://www.digikey.com/en/products/detail/panasonic-electronic-components/ERJ-6GEYJ274V/83130; Supply 3 SN: N/A; Supply 3 URL: https://www.thegioiic.com/dien-tro-270-kohm-0805-5
footprint RESISTOR_0805 (Chip Resistor, 2-Leads, Body 2,00x1,20mm, IPC Medium Density)
pins: 1, 2

## 0008052801
designator R?, comment 28, 1/8W
RES, 28 Ohm, size 0805, 1%; Manufacture  Name: Panasonic; Manufacture  SN: ERJ-6ENF28R0V; Resistance tolerance: +/-1%; Resistance: 28; Supply 1 Name: Mouser; Supply 1 SN: 667-ERJ-6ENF28R0V; Supply 2 Name: Digi-Key; Supply 2 SN: P28.0CTR-ND - Tape & Reel (TR); Supply 3 Name: Thegioiic; Size: 0805; Mounting Technology: SMT; Rated Power: 1/8 W; Datasheet: https://www.mouser.vn/datasheet/2/315/AOA0000C304-1149620.pdf; Supply 1 URL: https://www.mouser.vn/ProductDetail/Panasonic/ERJ-6ENF28R0V?qs=50QC8w71jAuRG2tW%252B3oKbA%3D%3D; Supply 2 URL: https://www.digikey.com/en/products/detail/panasonic-electronic-components/ERJ-6ENF28R0V/110979; Supply 3 SN: N/A; Supply 3 URL: N/A
footprint RESISTOR_0805 (Chip Resistor, 2-Leads, Body 2,00x1,20mm, IPC Medium Density)
pins: 1, 2

## 0008052841
designator R?, comment 280k, 1/8W
RES, 280k Ohm, size 0805, 1%; Manufacture  Name: Bourns; Manufacture  SN: CR0805-FX-2803ELF; Resistance tolerance: +/-1%; Supply 1 Name: Mouser; Supply 1 SN: 652-CR0805FX-2803ELF; Supply 2 Name: Digi-Key; Supply 2 SN: 311-280KCRTR-ND - Tape & Reel (TR); Supply 3 Name: Thegioiic; Size: 0805; Mounting Technology: SMT; Rated Power: 1/8 W; Datasheet: https://www.mouser.vn/datasheet/2/54/cr-1858361.pdf; Resistance: 280k; Supply 1 URL: https://www.mouser.vn/ProductDetail/Bourns/CR0805-FX-2803ELF?qs=4vGXhLEMbUxB3cDlEY4HEQ%3D%3D; Supply 2 URL: https://www.digikey.com/en/products/detail/yageo/RC0805FR-07280KL/727792; Supply 3 SN: N/A; Supply 3 URL: N/A
footprint RESISTOR_0805 (Chip Resistor, 2-Leads, Body 2,00x1,20mm, IPC Medium Density)
pins: 1, 2

## 0008052845
designator R?, comment 280k, 1/8W
RES, 280k Ohm, size 0805, 5%; Manufacture  Name: Royalohm; Manufacture  SN: HV05W8J0284T5E; Resistance tolerance: +/-5%; Supply 1 Name: Mouser; Supply 1 SN: 303-HV05W8J0284T5E; Supply 2 Name: Digi-Key; Supply 3 Name: Thegioiic; Size: 0805; Mounting Technology: SMT; Rated Power: 1/8 W; Datasheet: https://www.mouser.vn/datasheet/2/1365/HighVoltageHV-2525183.pdf; Resistance: 280k; Supply 1 URL: https://www.mouser.vn/ProductDetail/Royalohm/HV05W8J0284T5E?qs=Wj%2FVkw3K%252BMC%252B5QnCuawYGQ%3D%3D; Supply 2 SN: N/A; Supply 2 URL: N/A; Supply 3 SN: N/A; Supply 3 URL: N/A
footprint RESISTOR_0805 (Chip Resistor, 2-Leads, Body 2,00x1,20mm, IPC Medium Density)
pins: 1, 2

## 0008053011
designator R?, comment 300, 1/8W
RES, 300 Ohm, size 0805, 1%; Manufacture  Name: Panasonic; Manufacture  SN: ERJ-S06F3000V; Resistance tolerance: +/-1%; Resistance: 300; Supply 1 Name: Mouser; Supply 1 SN: 667-ERJ-S06F3000V; Supply 2 Name: Digi-Key; Supply 2 SN: 311-300CRTR-ND - Tape & Reel (TR); Supply 3 Name: Thegioiic; Size: 0805; Mounting Technology: SMT; Rated Power: 1/8 W; Datasheet: https://www.mouser.vn/datasheet/2/315/AOA0000C334-1314047.pdf; Supply 1 URL: https://www.mouser.vn/ProductDetail/Panasonic/ERJ-S06F3000V?qs=Zyl8A9hlmJpmD9LhGiXEgw%3D%3D; Supply 2 URL: https://www.digikey.com/en/products/detail/yageo/RC0805FR-07300RL/727848; Supply 3 SN: N/A; Supply 3 URL: N/A
footprint RESISTOR_0805 (Chip Resistor, 2-Leads, Body 2,00x1,20mm, IPC Medium Density)
pins: 1, 2

## 0008053015
designator R?, comment 300, 1/8W
RES, 300 Ohm, size 0805, 5%; Manufacture  Name: Panasonic; Manufacture  SN: ERJ-U06J301V; Resistance tolerance: +/-5%; Resistance: 300; Supply 1 Name: Mouser; Supply 1 SN: 667-ERJ-U06J301V; Supply 2 Name: Digi-Key; Supply 2 SN: P300ATR-ND - Tape & Reel (TR); Supply 3 Name: Thegioiic; Size: 0805; Mounting Technology: SMT; Rated Power: 1/8 W; Datasheet: https://www.mouser.vn/datasheet/2/315/AOA0000C334-1314047.pdf; Supply 1 URL: https://www.mouser.vn/ProductDetail/Panasonic/ERJ-U06J301V?qs=Yyy8avaXlIukLi0FzhyiCQ%3D%3D; Supply 2 URL: https://www.digikey.com/en/products/detail/panasonic-electronic-components/ERJ-6GEYJ301V/89720; Supply 3 SN: N/A; Supply 3 URL: https://www.thegioiic.com/dien-tro-300-ohm-0805-5
footprint RESISTOR_0805 (Chip Resistor, 2-Leads, Body 2,00x1,20mm, IPC Medium Density)
pins: 1, 2

## 0008053051
designator R?, comment 3M, 1/8W
RES, 3M Ohm, size 0805, 1%; Manufacture  Name: Vishay / Dale; Manufacture  SN: CRCW08053M00FKEA; Resistance tolerance: +/-1%; Supply 1 Name: Mouser; Supply 1 SN: 71-CRCW08053M00FKEA; Supply 2 Name: Digi-Key; Supply 2 SN: RHM3.00MAHTR-ND - Tape & Reel (TR); Supply 3 Name: Thegioiic; Size: 0805; Mounting Technology: SMT; Rated Power: 1/8 W; Datasheet: https://www.vishay.com/doc?20035; Resistance: 3M; Supply 1 URL: https://www.mouser.vn/ProductDetail/Vishay-Dale/CRCW08053M00FKEA?qs=kJXytlGtIWmJu2iuqz4MEQ%3D%3D; Supply 2 URL: https://www.digikey.com/en/products/detail/rohm-semiconductor/KTR10EZPF3004/1983650; Supply 3 SN: N/A; Supply 3 URL: N/A
footprint RESISTOR_0805 (Chip Resistor, 2-Leads, Body 2,00x1,20mm, IPC Medium Density)
pins: 1, 2

## 0008053055
designator R?, comment 3M, 1/8W
RES, 3M Ohm, size 0805, 5%; Manufacture  Name: Panasonic; Manufacture  SN: ERJ-6GEYJ305V; Resistance tolerance: +/-5%; Supply 1 Name: Mouser; Supply 1 SN: 667-ERJ-6GEYJ305V; Supply 2 Name: Digi-Key; Supply 2 SN: P3.0MATR-ND - Tape & Reel (TR); Supply 3 Name: Thegioiic; Size: 0805; Mounting Technology: SMT; Rated Power: 1/8 W; Datasheet: https://www.mouser.vn/datasheet/2/315/AOA0000C301-1488782.pdf; Resistance: 3M; Supply 1 URL: https://www.mouser.vn/ProductDetail/Panasonic/ERJ-6GEYJ305V?qs=YMBIwoNQYdW%2FI7cx0FQYDA%3D%3D; Supply 2 URL: https://www.digikey.com/en/products/detail/panasonic-electronic-components/ERJ-6GEYJ305V/282179; Supply 3 SN: N/A; Supply 3 URL: N/A
footprint RESISTOR_0805 (Chip Resistor, 2-Leads, Body 2,00x1,20mm, IPC Medium Density)
pins: 1, 2

## 0008053121
designator R?, comment 3.1k, 1/8W
RES, 3.1k Ohm, size 0805, 1%; Manufacture  Name: Royalohm; Manufacture  SN: 0805W8F3101T5E; Resistance tolerance: +/-1%; Supply 1 Name: Mouser; Supply 1 SN: 303-0805W8F3101T5E; Supply 2 Name: Digi-Key; Supply 3 Name: Thegioiic; Size: 0805; Mounting Technology: SMT; Rated Power: 1/8 W; Datasheet: https://www.mouser.vn/datasheet/2/1365/1-3044649.pdf; Resistance: 3.1k; Supply 1 URL: https://www.mouser.vn/ProductDetail/Royalohm/0805W8F3101T5E?qs=e8oIoAS2J1Tf1Mb5mAEVdw%3D%3D; Supply 2 SN: N/A; Supply 2 URL: N/A; Supply 3 SN: N/A; Supply 3 URL: N/A
footprint RESISTOR_0805 (Chip Resistor, 2-Leads, Body 2,00x1,20mm, IPC Medium Density)
pins: 1, 2

## 0008053201
designator R?, comment 32, 1/8W
RES, 32 Ohm, size 0805, 1%; Manufacture  Name: KOA Speer Electronics, Inc.; Manufacture  SN: RN73R2ATTD32R0F100; Resistance tolerance: +/-1%; Resistance: 32; Supply 1 Name: Mouser; Supply 2 Name: Digi-Key; Supply 2 SN: 2019-RN73R2ATTD32R0F100TR-ND - Tape & Reel (TR); Supply 3 Name: Thegioiic; Size: 0805; Mounting Technology: SMT; Rated Power: 1/8 W; Datasheet: https://media.digikey.com/pdf/Data%20Sheets/KOA%20Speer/RN73R_Type_DS.pdf; Supply 1 SN: N/A; Supply 1 URL: N/A; Supply 2 URL: https://www.digikey.com/en/products/detail/koa-speer-electronics-inc/RN73R2ATTD32R0F100/10030831; Supply 3 SN: N/A; Supply 3 URL: N/A
footprint RESISTOR_0805 (Chip Resistor, 2-Leads, Body 2,00x1,20mm, IPC Medium Density)
pins: 1, 2

## 0008053241
designator R?, comment 320k, 1/8W
RES, 320k Ohm, size 0805, 1%; Manufacture  Name: Royalohm; Manufacture  SN: 0805W8F3203T5E; Resistance tolerance: +/-1%; Supply 1 Name: Mouser; Supply 1 SN: 303-0805W8F3203T5E; Supply 2 Name: Digi-Key; Supply 2 SN: 2019-RN73H2ATTD3203F100TR-ND - Tape & Reel (TR); Supply 3 Name: Thegioiic; Size: 0805; Mounting Technology: SMT; Rated Power: 1/8 W; Datasheet: https://www.mouser.vn/datasheet/2/1365/1-3044649.pdf; Resistance: 320k; Supply 1 URL: https://www.mouser.vn/ProductDetail/Royalohm/0805W8F3203T5E?qs=e8oIoAS2J1SLbDpmWuICGg%3D%3D; Supply 2 URL: https://www.digikey.com/en/products/detail/koa-speer-electronics-inc/RN73H2ATTD3203F100/10090183; Supply 3 SN: N/A; Supply 3 URL: N/A
footprint RESISTOR_0805 (Chip Resistor, 2-Leads, Body 2,00x1,20mm, IPC Medium Density)
pins: 1, 2

## 0008053321
designator R?, comment 3.3k, 1/8W
RES, 3.3k Ohm, size 0805, 1%; Manufacture  Name: Panasonic; Manufacture  SN: ERJ-6ENF3301V; Resistance tolerance: +/-1%; Supply 1 Name: Mouser; Supply 1 SN: 667-ERJ-6ENF3301V; Supply 2 Name: Digi-Key; Supply 2 SN: 13-RC0805FR-133K3LTR-ND - Tape & Reel (TR); Supply 3 Name: Thegioiic; Size: 0805; Mounting Technology: SMT; Rated Power: 1/8 W; Datasheet: https://www.mouser.vn/datasheet/2/315/AOA0000C304-1149620.pdf; Resistance: 3.3k; Supply 1 URL: https://www.mouser.vn/ProductDetail/Panasonic/ERJ-6ENF3301V?qs=sGAEpiMZZMtlubZbdhIBIGigBIB3A6R9dIvMOtC7jmQ%3D; Supply 2 URL: https://www.digikey.com/en/products/detail/yageo/RC0805FR-133K3L/14008213; Supply 3 SN: N/A; Supply 3 URL: https://www.thegioiic.com/dien-tro-3-3-kohm-0805-1-
footprint RESISTOR_0805 (Chip Resistor, 2-Leads, Body 2,00x1,20mm, IPC Medium Density)
pins: 1, 2

## 0008053325
designator R?, comment 3.3k, 1/8W
RES, 3.3k Ohm, size 0805, 5%; Manufacture  Name: Panasonic; Manufacture  SN: ERJ-S06J332V; Resistance tolerance: +/-5%; Supply 1 Name: Mouser; Supply 1 SN: 667-ERJ-S06J332V; Supply 2 Name: Digi-Key; Supply 2 SN: P3.3KATR-ND - Tape & Reel (TR); Supply 3 Name: Thegioiic; Size: 0805; Mounting Technology: SMT; Rated Power: 1/8 W; Datasheet: https://www.mouser.vn/datasheet/2/315/AOA0000C334-1314047.pdf; Resistance: 3.3k; Supply 1 URL: https://www.mouser.vn/ProductDetail/Panasonic/ERJ-S06J332V?qs=Lnc17S3XxqC89pwdWk%2FMHQ%3D%3D; Supply 2 URL: https://www.digikey.com/en/products/detail/panasonic-electronic-components/ERJ-6GEYJ332V/83038; Supply 3 SN: N/A; Supply 3 URL: https://www.thegioiic.com/dien-tro-3-3-kohm-0805-5
footprint RESISTOR_0805 (Chip Resistor, 2-Leads, Body 2,00x1,20mm, IPC Medium Density)
pins: 1, 2

## 0008053401
designator R?, comment 34, 1/8W
RES, 34 Ohm, size 0805, 1%; Manufacture  Name: Panasonic; Manufacture  SN: ERJ-6ENF34R0V; Resistance tolerance: +/-1%; Resistance: 34; Supply 1 Name: Mouser; Supply 1 SN: 667-ERJ-6ENF34R0V; Supply 2 Name: Digi-Key; Supply 2 SN: P34.0CTR-ND - Tape & Reel (TR); Supply 3 Name: Thegioiic; Size: 0805; Mounting Technology: SMT; Rated Power: 1/8 W; Datasheet: https://www.mouser.vn/datasheet/2/315/AOA0000C304-1149620.pdf; Supply 1 URL: https://www.mouser.vn/ProductDetail/Panasonic/ERJ-6ENF34R0V?qs=sGAEpiMZZMtlubZbdhIBIGigBIB3A6R9vyKOoGSmyyY%3D; Supply 2 URL: https://www.digikey.com/en/products/detail/panasonic-electronic-components/ERJ-6ENF34R0V/110995; Supply 3 SN: N/A; Supply 3 URL: https://www.thegioiic.com/dien-tro-34-kohm-0805-1
footprint RESISTOR_0805 (Chip Resistor, 2-Leads, Body 2,00x1,20mm, IPC Medium Density)
pins: 1, 2

## 0008053441
designator R?, comment 340k, 1/8W
RES, 340k Ohm, size 0805, 1%; Manufacture  Name: Panasonic; Manufacture  SN: ERJ-S06F3403V; Resistance tolerance: +/-1%; Supply 1 Name: Mouser; Supply 1 SN: 667-ERJ-S06F3403V; Supply 2 Name: Digi-Key; Supply 2 SN: 311-340KCRTR-ND - Tape & Reel (TR); Supply 3 Name: Thegioiic; Size: 0805; Mounting Technology: SMT; Rated Power: 1/8 W; Datasheet: https://www.mouser.vn/datasheet/2/315/AOA0000C334-1314047.pdf; Resistance: 340k; Supply 1 URL: https://www.mouser.vn/ProductDetail/Panasonic/ERJ-S06F3403V?qs=sGAEpiMZZMtlubZbdhIBINuoixIUl6fxeLoMswtFUVs%3D; Supply 2 URL: https://www.digikey.com/en/products/detail/yageo/RC0805FR-07340KL/727875; Supply 3 SN: N/A; Supply 3 URL: N/A
footprint RESISTOR_0805 (Chip Resistor, 2-Leads, Body 2,00x1,20mm, IPC Medium Density)
pins: 1, 2

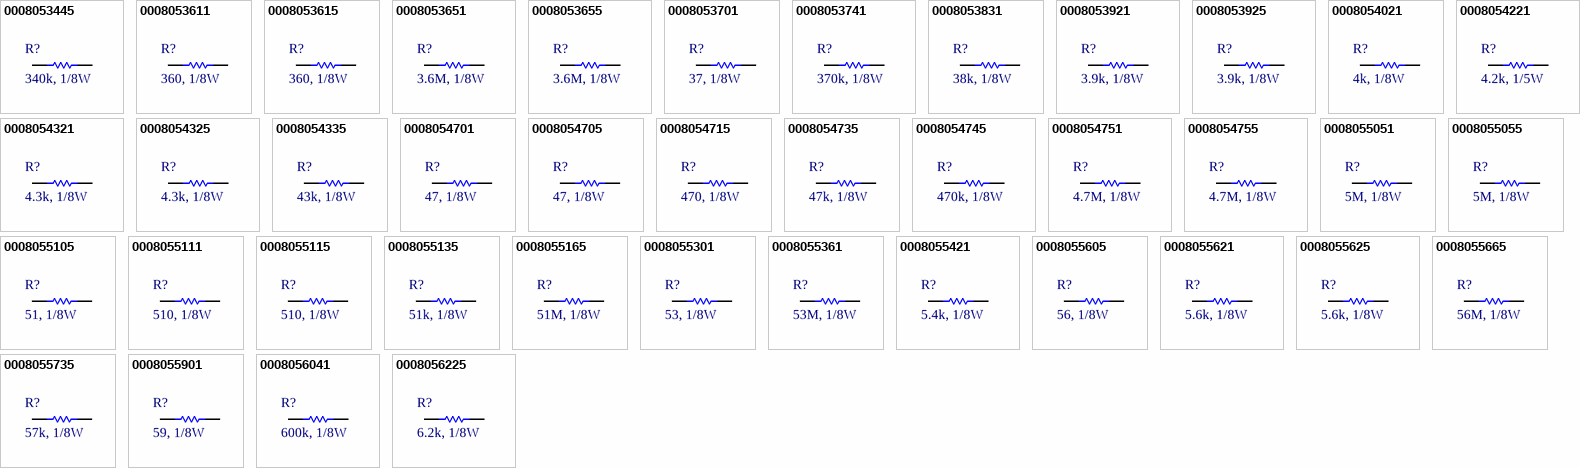
[diagram p10: symbols 0008053445 to 0008056225]

## 0008053445
designator R?, comment 340k, 1/8W
RES, 340k Ohm, size 0805, 5%; Manufacture  SN: LHVC0805-340KJT5; Resistance tolerance: +/-5%; Supply 1 Name: Mouser; Supply 1 SN: 756-LHVC0805-340KJT5; Supply 2 Name: Digi-Key; Supply 3 Name: Thegioiic; Size: 0805; Mounting Technology: SMT; Rated Power: 1/8 W; Datasheet: https://www.ttelectronics.com/TTElectronics/media/ProductFiles/Datasheets/LHVC.pdf; Resistance: 340k; Supply 1 URL: https://www.mouser.vn/ProductDetail/Welwyn-Components-TT-Electronics/LHVC0805-340KJT5?qs=GY4PX5ytnAgjdzirgpTyKQ%3D%3D; Supply 2 SN: N/A; Supply 2 URL: N/A; Supply 3 SN: N/A; Supply 3 URL: N/A; Manufacture  Name: 756-LHVC0805-340KJT5
footprint RESISTOR_0805 (Chip Resistor, 2-Leads, Body 2,00x1,20mm, IPC Medium Density)
pins: 1, 2

## 0008053611
designator R?, comment 360, 1/8W
RES, 360 Ohm, size 0805, 1%; Manufacture  Name: Panasonic; Manufacture  SN: ERJ-6ENF3600V; Resistance tolerance: +/-1%; Resistance: 360; Supply 1 Name: Mouser; Supply 1 SN: 667-ERJ-6ENF3600V; Supply 2 Name: Digi-Key; Supply 2 SN: 311-360CRTR-ND - Tape & Reel (TR); Supply 3 Name: Thegioiic; Size: 0805; Mounting Technology: SMT; Rated Power: 1/8 W; Datasheet: https://www.mouser.vn/datasheet/2/315/AOA0000C304-1149620.pdf; Supply 1 URL: https://www.mouser.vn/ProductDetail/Panasonic/ERJ-6ENF3600V?qs=sGAEpiMZZMtlubZbdhIBIGigBIB3A6R9lBl3j8zMMkE%3D; Supply 2 URL: https://www.digikey.com/en/products/detail/yageo/RC0805FR-07360RL/727886; Supply 3 SN: N/A; Supply 3 URL: N/A
footprint RESISTOR_0805 (Chip Resistor, 2-Leads, Body 2,00x1,20mm, IPC Medium Density)
pins: 1, 2

## 0008053615
designator R?, comment 360, 1/8W
RES, 360 Ohm, size 0805, 5%; Manufacture  Name: Bourns; Manufacture  SN: CR0805-JW-361ELF; Resistance tolerance: +/-5%; Resistance: 360; Supply 1 Name: Mouser; Supply 1 SN: 652-CR0805JW-361ELF; Supply 2 Name: Digi-Key; Supply 2 SN: 118-CR0805-JW-361ELFTR-ND - Tape & Reel (TR); Supply 3 Name: Thegioiic; Size: 0805; Mounting Technology: SMT; Rated Power: 1/8 W; Datasheet: https://www.mouser.vn/datasheet/2/54/cr-1858361.pdf; Supply 1 URL: https://www.mouser.vn/ProductDetail/Bourns/CR0805-JW-361ELF?qs=%252BcBkmVQIZ2S%2FXKtSNkfUkg%3D%3D; Supply 2 URL: https://www.digikey.com/en/products/detail/bourns-inc/CR0805-JW-361ELF/3785307; Supply 3 SN: N/A; Supply 3 URL: https://www.thegioiic.com/dien-tro-360-ohm-0805-5
footprint RESISTOR_0805 (Chip Resistor, 2-Leads, Body 2,00x1,20mm, IPC Medium Density)
pins: 1, 2

## 0008053651
designator R?, comment 3.6M, 1/8W
RES, 3.6M Ohm, size 0805, 1%; Manufacture  Name: Vishay / Dale; Manufacture  SN: CRCW08053M60FKEA; Resistance tolerance: +/-1%; Supply 1 Name: Mouser; Supply 1 SN: 71-CRCW08053M60FKEA; Supply 2 Name: Digi-Key; Supply 2 SN: 541-3.60MCTR-ND - Tape & Reel (TR); Supply 3 Name: Thegioiic; Size: 0805; Mounting Technology: SMT; Rated Power: 1/8 W; Datasheet: https://www.vishay.com/doc?20035; Resistance: 3.6M; Supply 1 URL: https://www.mouser.vn/ProductDetail/Vishay-Dale/CRCW08053M60FKEA?qs=DfgzkkA2Qx1vRqdcWwqQnA%3D%3D; Supply 2 URL: https://www.digikey.com/en/products/detail/vishay-dale/CRCW08053M60FKEA/1176078; Supply 3 SN: N/A; Supply 3 URL: N/A
footprint RESISTOR_0805 (Chip Resistor, 2-Leads, Body 2,00x1,20mm, IPC Medium Density)
pins: 1, 2

## 0008053655
designator R?, comment 3.6M, 1/8W
RES, 3.6M Ohm, size 0805, 5%; Manufacture  Name: Panasonic; Manufacture  SN: ERJ-6GEYJ365V; Resistance tolerance: +/-5%; Supply 1 Name: Mouser; Supply 1 SN: 667-ERJ-6GEYJ365V; Supply 2 Name: Digi-Key; Supply 2 SN: P3.6MATR-ND - Tape & Reel (TR); Supply 3 Name: Thegioiic; Size: 0805; Mounting Technology: SMT; Rated Power: 1/8 W; Datasheet: https://www.mouser.vn/datasheet/2/315/AOA0000C301-1488782.pdf; Resistance: 3.6M; Supply 1 URL: https://www.mouser.vn/ProductDetail/Panasonic/ERJ-6GEYJ365V?qs=YMBIwoNQYdWT6WkHu%252Bwzuw%3D%3D; Supply 2 URL: https://www.digikey.com/en/products/detail/panasonic-electronic-components/ERJ-6GEYJ365V/282181; Supply 3 SN: N/A; Supply 3 URL: N/A
footprint RESISTOR_0805 (Chip Resistor, 2-Leads, Body 2,00x1,20mm, IPC Medium Density)
pins: 1, 2

## 0008053701
designator R?, comment 37, 1/8W
RES, 37 Ohm, size 0805, 1%; Manufacture  Name: KOA Speer Electronics, Inc.; Manufacture  SN: RN73R2ATTD37R0F50; Resistance tolerance: +/-1%; Resistance: 37; Supply 1 Name: Mouser; Supply 2 Name: Digi-Key; Supply 2 SN: 2019-RN73R2ATTD37R0F50TR-ND - Tape & Reel (TR); Supply 3 Name: Thegioiic; Size: 0805; Mounting Technology: SMT; Rated Power: 1/8 W; Datasheet: https://media.digikey.com/pdf/Data%20Sheets/KOA%20Speer/RN73R_Type_DS.pdf; Supply 1 SN: N/A; Supply 1 URL: N/A; Supply 2 URL: https://www.digikey.com/en/products/detail/koa-speer-electronics-inc/RN73R2ATTD37R0F50/10031868; Supply 3 SN: N/A; Supply 3 URL: N/A
footprint RESISTOR_0805 (Chip Resistor, 2-Leads, Body 2,00x1,20mm, IPC Medium Density)
pins: 1, 2

## 0008053741
designator R?, comment 370k, 1/8W
RES, 370k Ohm, size 0805, 1%; Manufacture  Name: Royalohm; Manufacture  SN: 0805W8F3703T5E; Resistance tolerance: +/-1%; Supply 1 Name: Mouser; Supply 1 SN: 303-0805W8F3703T5E; Supply 2 Name: Digi-Key; Supply 2 SN: 2019-RN73R2ATTD3703F50TR-ND - Tape & Reel (TR); Supply 3 Name: Thegioiic; Size: 0805; Mounting Technology: SMT; Rated Power: 1/8 W; Datasheet: https://www.mouser.vn/datasheet/2/1365/1-3044649.pdf; Resistance: 370k; Supply 1 URL: https://www.mouser.vn/ProductDetail/Royalohm/0805W8F3703T5E?qs=e8oIoAS2J1QGY4HfIoRyBQ%3D%3D; Supply 2 URL: https://www.digikey.com/en/products/detail/koa-speer-electronics-inc/RN73R2ATTD3703F50/10031730; Supply 3 SN: N/A; Supply 3 URL: N/A
footprint RESISTOR_0805 (Chip Resistor, 2-Leads, Body 2,00x1,20mm, IPC Medium Density)
pins: 1, 2

## 0008053831
designator R?, comment 38k, 1/8W
RES, 38k Ohm, size 0805, 1%; Manufacture  Name: Vishay / Dale; Manufacture  SN: CRCW080538K0FKTA; Resistance tolerance: +/-1%; Supply 1 Name: Mouser; Supply 1 SN: 71-CRCW080538K0FKTA; Supply 2 Name: Digi-Key; Supply 2 SN: CRCW080538K0FKTA-ND - Tape & Reel (TR); Supply 3 Name: Thegioiic; Size: 0805; Mounting Technology: SMT; Rated Power: 1/8 W; Datasheet: https://www.vishay.com/doc?20008; Resistance: 38k; Supply 1 URL: https://www.mouser.vn/ProductDetail/Vishay-Dale/CRCW080538K0FKTA?qs=G%2FXU5Rmt380cCuBsVuvGBg%3D%3D; Supply 2 URL: https://www.digikey.com/en/products/detail/vishay-dale/CRCW080538K0FKTA/5075022?s=N4IgjCBcoMxaBjKAzAhgGwM4FMA0IB7KAbXDBggF18AHAFyhAGU6AnASwDsBzEAX3xgATAE4I0EEkhoseQiRAwRMIQA4Q1EPUYsOPfviEAGVQFZ4klBhz4ikUjFUACANYB5ABYBbTBtoNIEABVTnY6N2QAWWxUTABXVmx%2BPj4gA; Supply 3 SN: N/A; Supply 3 URL: N/A
footprint RESISTOR_0805 (Chip Resistor, 2-Leads, Body 2,00x1,20mm, IPC Medium Density)
pins: 1, 2

## 0008053921
designator R?, comment 3.9k, 1/8W
RES, 3.9k Ohm, size 0805, 1%; Manufacture  Name: Bourns; Manufacture  SN: CR0805-FX-3901ELF; Resistance tolerance: +/-1%; Supply 1 Name: Mouser; Supply 1 SN: 652-CR0805FX-3901ELF; Supply 2 Name: Digi-Key; Supply 2 SN: 118-CR0805-FX-3901ELFTR-ND - Tape & Reel (TR); Supply 3 Name: Thegioiic; Size: 0805; Mounting Technology: SMT; Rated Power: 1/8 W; Datasheet: https://www.mouser.vn/datasheet/2/54/cr-1858361.pdf; Resistance: 3.9k; Supply 1 URL: https://www.mouser.vn/ProductDetail/Bourns/CR0805-FX-3901ELF?qs=TYKCbaKwe1D27AYhD5%2FCCg%3D%3D; Supply 2 URL: https://www.digikey.com/en/products/detail/bourns-inc/CR0805-FX-3901ELF/3784914; Supply 3 SN: N/A; Supply 3 URL: https://www.thegioiic.com/dien-tro-3-9-kohm-0805-1
footprint RESISTOR_0805 (Chip Resistor, 2-Leads, Body 2,00x1,20mm, IPC Medium Density)
pins: 1, 2

## 0008053925
designator R?, comment 3.9k, 1/8W
RES, 3.9k Ohm, size 0805, 5%; Manufacture  Name: YAGEO; Manufacture  SN: AC0805JR-073K9L; Resistance tolerance: +/-5%; Supply 1 Name: Mouser; Supply 1 SN: 603-AC0805JR-073K9L; Supply 2 Name: Digi-Key; Supply 2 SN: 311-3.9KARTR-ND - Tape & Reel (TR); Supply 3 Name: Thegioiic; Size: 0805; Mounting Technology: SMT; Rated Power: 1/8 W; Datasheet: https://www.mouser.vn/datasheet/2/447/PYu_AC_51_RoHS_L_9-3005297.pdf; Resistance: 3.9k; Supply 1 URL: https://www.mouser.vn/ProductDetail/YAGEO/AC0805JR-073K9L?qs=TI15CVqcli3H7xgSN0L6lg%3D%3D; Supply 2 URL: https://www.digikey.com/en/products/detail/yageo/RC0805JR-073K9L/728305; Supply 3 SN: N/A; Supply 3 URL: https://www.thegioiic.com/dien-tro-3-9-kohm-0805-5
footprint RESISTOR_0805 (Chip Resistor, 2-Leads, Body 2,00x1,20mm, IPC Medium Density)
pins: 1, 2

## 0008054021
designator R?, comment 4k, 1/8W
RES, 4k Ohm, size 0805, 1%; Manufacture  Name: Vishay / Dale; Manufacture  SN: CRCW08054K00FKTA; Resistance tolerance: +/-1%; Supply 1 Name: Mouser; Supply 1 SN: 71-CRCW0805-4K; Supply 2 Name: Digi-Key; Supply 2 SN: 541-CRCW08054K00FKTATR-ND - Tape & Reel (TR); Supply 3 Name: Thegioiic; Size: 0805; Mounting Technology: SMT; Rated Power: 1/8 W; Datasheet: https://www.vishay.com/doc?20008; Resistance: 4k; Supply 1 URL: https://www.mouser.vn/ProductDetail/Vishay-Dale/CRCW08054K00FKTA?qs=O7pb%252BE5gJ7RWLcqNUk6AxA%3D%3D; Supply 2 URL: https://www.digikey.com/en/products/detail/vishay-dale/CRCW08054K00FKTA/5075408; Supply 3 SN: N/A; Supply 3 URL: N/A
footprint RESISTOR_0805 (Chip Resistor, 2-Leads, Body 2,00x1,20mm, IPC Medium Density)
pins: 1, 2

## 0008054221
designator R?, comment 4.2k, 1/5W
RES, 4.2k Ohm, size 0805, 1%; Resistance: 4.2kOhms; Resistance Tolerance: +/-1%; Supply 1 Name: Mouser; Supply 2 Name: Digi-Key; Supply 2 SN: Y16244K20000F9W-ND; Supply 3 Name: Thegioiic; Supply 1 SN: N/A; Supply 1 URL: N/A; Supply 2 URL: https://www.digikey.com/en/products/detail/vpg-foil-resistors/Y16244K20000F9W/4230261?s=N4IgjCBcoMxaBjKAzAhgGwM4FMA0IB7KAbXDBggF18AHAFyhAGU6AnASwDsBzEAX3wAmAAwAOAKzwQSSGix5CJEABYAdIIAEAawDyACwC2mENRD1GAVU7s6O5AFlsqTAFdW2fgJCCl7zO0w6AlYQfDFhSUo%2BIA; Size: 0805; Rated Power: 1/5W; Supply 3 SN: N/A; Supply 3 URL: N/A; Mounting Technology: SMT; Datasheet: N/A; Manufacture  Name: N/A; Manufacture  SN: N/A
footprint RESISTOR_0805 (Chip Resistor, 2-Leads, Body 2,00x1,20mm, IPC Medium Density)
pins: 1, 2

## 0008054321
designator R?, comment 4.3k, 1/8W
RES, 4.3k Ohm, size 0805, 1%; Resistance Tolerance: +/-1%; Supply 1 Name: Mouser; Supply 1 SN: 652-CR0805FX-4301ELF; Supply 2 Name: Digi-Key; Supply 2 SN: RMCF0805FT4K30DKR-ND; Resistance: 4.3 kOhms; Supply 3 Name: Thegioiic; Size: 0805; Rated Power: 1/8W; Supply 1 URL: https://www.mouser.vn/ProductDetail/Bourns/CR0805-FX-4301ELF?qs=sGAEpiMZZMtG0KNrPCHnjfC2zYK6Lg3%2FBHUTuTFrqKo%3D; Supply 2 URL: https://www.digikey.com/en/products/detail/stackpole-electronics-inc/RMCF0805FT4K30/1760198; Mounting Technology: SMT; Supply 3 SN: N/A; Supply 3 URL: N/A; Datasheet: N/A; Manufacture  Name: N/A; Manufacture  SN: N/A
footprint RESISTOR_0805 (Chip Resistor, 2-Leads, Body 2,00x1,20mm, IPC Medium Density)
pins: 1, 2

## 0008054325
designator R?, comment 4.3k, 1/8W
RES, 4.3k Ohm, size 0805, 5%; Resistance: 4.3 kOhms; Resistance Tolerance: +/-1%; Supply 1 Name: Mouser; Supply 1 SN: 603-AC0805JR-074K3L; Supply 2 Name: Digi-Key; Supply 2 SN: 311-4.3KARTR-ND; Supply 3 Name: Thegioiic; Size: 0805; Rated Power: 1/8W; Supply 1 URL: https://www.mouser.vn/ProductDetail/YAGEO/AC0805JR-074K3L?qs=TI15CVqcli3mEGJiw0eocw%3D%3D; Supply 2 URL: https://www.digikey.com/en/products/detail/yageo/RC0805JR-074K3L/728324; Mounting Technology: SMT; Supply 3 SN: N/A; Supply 3 URL: N/A; Datasheet: N/A; Manufacture  Name: N/A; Manufacture  SN: N/A
footprint RESISTOR_0805 (Chip Resistor, 2-Leads, Body 2,00x1,20mm, IPC Medium Density)
pins: 1, 2

## 0008054335
designator R?, comment 43k, 1/8W
RES, 43k Ohm, size 0805, 5%; Resistance: 43 kOhms; Resistance Tolerance: +/-1%; Supply 1 Name: Mouser; Supply 1 SN: 603-RC0805JR-0743KL; Supply 2 Name: Digi-Key; Supply 2 SN: 311-43KARTR-ND; Supply 3 Name: Thegioiic; Size: 0805; Rated Power: 1/8W; Supply 1 URL: https://www.mouser.vn/ProductDetail/YAGEO/RC0805JR-0743KL?qs=fRxXYNj8ftFNnTPBpvTm6A%3D%3D; Supply 2 URL: https://www.digikey.com/en/products/detail/yageo/RC0805JR-0743KL/728332; Mounting Technology: SMT; Supply 3 SN: N/A; Supply 3 URL: N/A; Datasheet: N/A; Manufacture  Name: N/A; Manufacture  SN: N/A
footprint RESISTOR_0805 (Chip Resistor, 2-Leads, Body 2,00x1,20mm, IPC Medium Density)
pins: 1, 2